# EAGLE library part MSP430FR5720_RGE_24 (library weather_station)
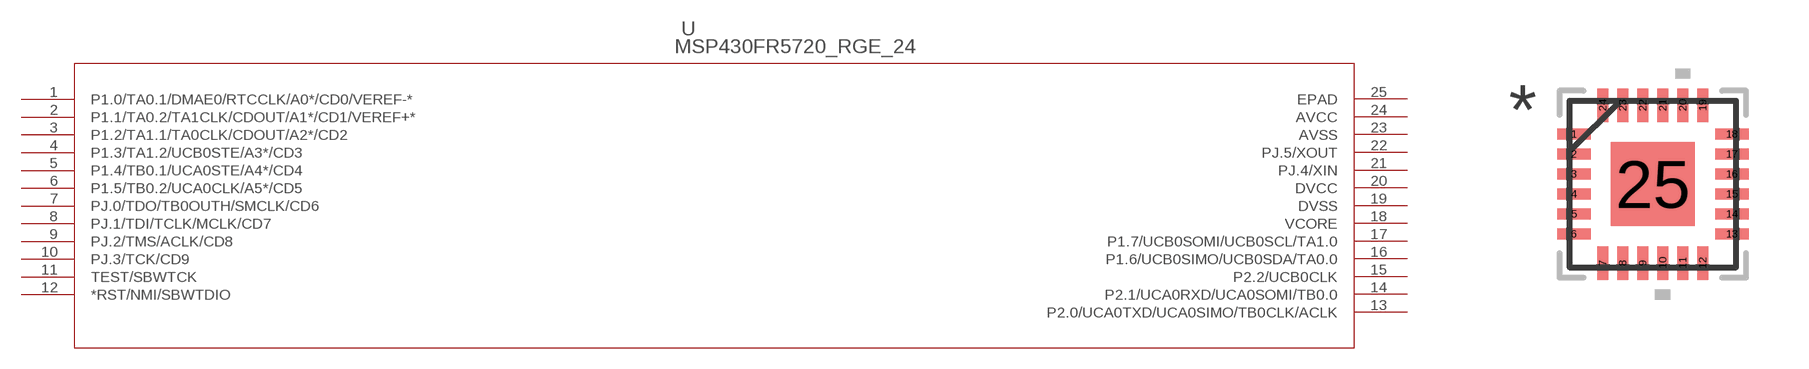
[diagram p9: symbol with the pads of RGE24_2P1X2P1; footprint RGE24_2P1X2P1]

Designator prefix U

## MSP430FR5720_RGE_24 (DATASHEETURL: http://www.ti.com/lit/gpn/MSP430FR5720; DESCRIPTION: MSP430FR573x,MSP430FR572x Mixed Signal Microcontroller; FAMILY_NAME: FRAM Series; GENERIC_PART_NUMBER: MSP430FR5720; INDUSTRY_STD_PKG_TYPE: VQFN; MANUFACTURER: Texas Instruments; MANUFACTURER_PART_NUMBER: msp430fr5720_rge_24; PACKAGE_DESIGNATOR: RGE; PIN_COUNT: 24; VENDOR: Texas Instruments)  [RGE24_2P1X2P1]
1  P1.0/TA0.1/DMAE0/RTCCLK/A0*/CD0/VEREF-*
2  P1.1/TA0.2/TA1CLK/CDOUT/A1*/CD1/VEREF+*
3  P1.2/TA1.1/TA0CLK/CDOUT/A2*/CD2
4  P1.3/TA1.2/UCB0STE/A3*/CD3
5  P1.4/TB0.1/UCA0STE/A4*/CD4
6  P1.5/TB0.2/UCA0CLK/A5*/CD5
7  PJ.0/TDO/TB0OUTH/SMCLK/CD6
8  PJ.1/TDI/TCLK/MCLK/CD7
9  PJ.2/TMS/ACLK/CD8
10  PJ.3/TCK/CD9
11  TEST/SBWTCK
12  *RST/NMI/SBWTDIO
13  P2.0/UCA0TXD/UCA0SIMO/TB0CLK/ACLK
14  P2.1/UCA0RXD/UCA0SOMI/TB0.0
15  P2.2/UCB0CLK
16  P1.6/UCB0SIMO/UCB0SDA/TA0.0
17  P1.7/UCB0SOMI/UCB0SCL/TA1.0
18  VCORE  pwr
19  DVSS  pwr
20  DVCC  pwr
21  PJ.4/XIN
22  PJ.5/XOUT
23  AVSS  pwr
24  AVCC  pwr
25  EPAD  pas

## Footprint RGE24_2P1X2P1 (pad centres in mm)
smd 0.838 x 0.279: 1 -1.975,1.25; 2 -1.975,0.75; 3 -1.975,0.25; 4 -1.975,-0.25; 5 -1.975,-0.75; 6 -1.975,-1.25; 13 1.975,-1.25; 14 1.975,-0.75; 15 1.975,-0.25; 16 1.975,0.25; 17 1.975,0.75; 18 1.975,1.25
smd 0.279 x 0.838: 7 -1.25,-1.975; 8 -0.75,-1.975; 9 -0.25,-1.975; 10 0.25,-1.975; 11 0.75,-1.975; 12 1.25,-1.975; 19 1.25,1.975; 20 0.75,1.975; 21 0.25,1.975; 22 -0.25,1.975; 23 -0.75,1.975; 24 -1.25,1.975
smd 2.108 x 2.108: 25 0,0